# Altium footprint library SW DIP.PcbLib: 2 footprints
Each footprint in its own frame and in the unit in brackets; x right, y up, seen from the top. Pads: shape width x height; smd on the part's side, far side on the other; paste and mask are expansions set on the pad; w line width, h text height; cw(c..) or ccw(c..) is an arc to the next point about the centre after c.
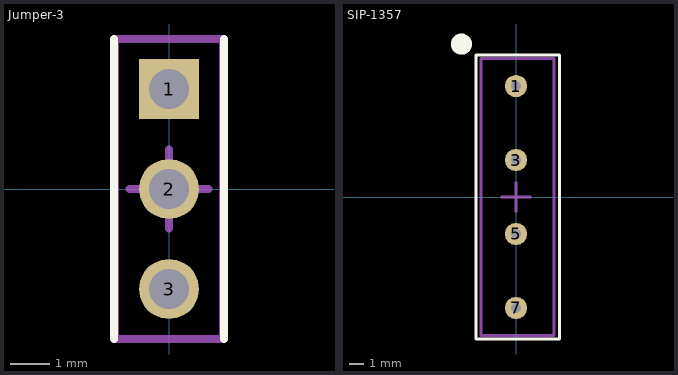
[diagram p0: the footprints below, top view; thin cyan lines are the x and y axes]

## Jumper-3 [mil]
pads (3):
  rect 60x60 hole 40.16: 1(0,100)
  round 60 hole 40.16: 2(0,0) 3(0,-100)
Top Overlay:
  lines w7.87: -55,-150 -55,150 ; 55,-150 55,150
Assembly:
  lines w7.87: -54.13,-150 54.13,-150 54.13,150 -54.13,150 -54.13,-150
Mechanical 15:
  lines w7.87: -39.37,0 39.37,0 ; 0,-39.37 0,39.37 ; -54.13,-150 54.13,-150 54.13,150 -54.13,150 -54.13,-150
3D body "Jumper-3.step": height 434.65, standoff -118.11, extent -50,-150 50,150

## SIP-1357 [mil]
pads (4):
  round 60 hole 27.56: 1(0,300) 3(0,100) 5(0,-100) 7(0,-300)
Top Overlay:
  circle w29.53: c-147.64,413.39 r13.78
  lines w7.87: -108.27,-383.86 -108.27,374.02 -108.27,383.86 118.11,383.86 118.11,-383.86 -108.27,-383.86
Assembly:
  lines w7.87: -94.49,-374.02 102.36,-374.02 102.36,374.02 -94.49,374.02 -94.49,-374.02
Mechanical 15:
  lines w7.87: -39.37,0 39.37,0 ; 0,-39.37 0,39.37 ; -94.49,-374.02 102.36,-374.02 102.36,374.02 -94.49,374.02 -94.49,-374.02
3D body "SIP-1357.step": height 275.59, standoff -145.67, extent -94.49,-374.01 102.36,374.02